# Altium schematic symbol library Diodes.SchLib: 13 symbols
Pins are listed as number, name and electrical type; pins without a type are passive.

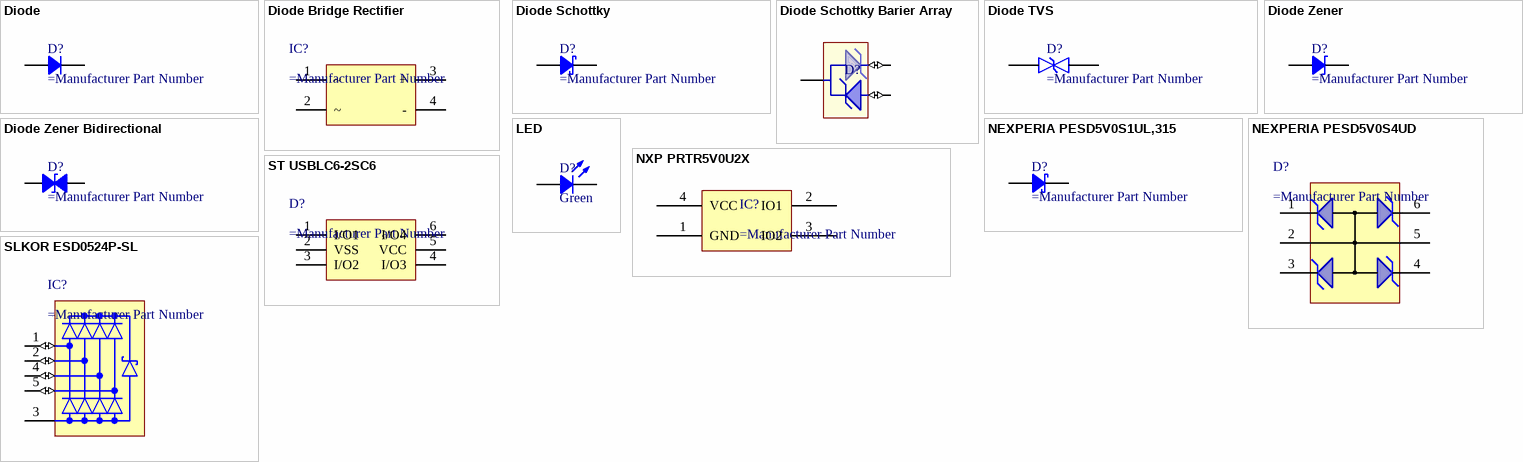
[diagram p0: symbols Diode to ST USBLC6-2SC6]

## Diode
designator D?
Rectifier Diode
footprint DFN1006-2L
footprint do214ac sma (Molded Diode, 2-Leads, Body 4.30x2.60mm, IPC Medium Density)
footprint do214ab smc (Molded Diode, 2-Leads, Body 6.85x5.90mm, IPC Medium Density)
footprint sod123f (SODFL, 2-Leads, Body 1.60x3.50mm, IPC Medium Density)
footprint sod323f (SODFL, 2-Leads, Body 1.25x2.50mm, IPC Medium Density)
footprint sod523f (SODFL, 2-Leads, Body 0.80x1.60mm, IPC Medium Density)
footprint sod-123 (SOD, 2-Leads, Body 1.55x3.70mm, IPC Medium Density)
footprint sod2513
pins: 1, 2

## Diode Bridge Rectifier
designator IC?
Bridge Rectifier
footprint VISHAY TO-269
pins: 1 ~, 2 ~, 3 +, 4 -

## Diode Schottky
designator D?
Schottky Diode
footprint DFN1006-2L
footprint DO214AB SMC (Molded Diode, 2-Leads, Body 6.85x5.90mm, IPC Medium Density)
footprint DO214AC SMA (Molded Diode, 2-Leads, Body 4.30x2.60mm, IPC Medium Density)
footprint SOD-123 (SOD, 2-Leads, Body 1.55x3.70mm, IPC Medium Density)
footprint SOD123F (SODFL, 2-Leads, Body 1.60x3.50mm, IPC Medium Density)
footprint SOD323F (SODFL, 2-Leads, Body 1.25x2.50mm, IPC Medium Density)
footprint SOD523F (SODFL, 2-Leads, Body 0.80x1.60mm, IPC Medium Density)
footprint SOD2513
footprint DO216AA
footprint SOD923
pins: 1, 2

## Diode Schottky Barier Array
designator D?
TVS Array; ComponentLink2Description: SMD
footprint DIODES SOT-23-3 (SOT23, 3-Leads, Body 2.90x2.40mm, Pitch 0.95mm, IPC Medium Density)
pins: 1 (io), 2 (power), 3 (io)

## Diode TVS
designator D?
TVS Diode
footprint DFN1006-2L
footprint DO214AB SMC (Molded Diode, 2-Leads, Body 6.85x5.90mm, IPC Medium Density)
footprint DO214AC SMA (Molded Diode, 2-Leads, Body 4.30x2.60mm, IPC Medium Density)
footprint SOD-123 (SOD, 2-Leads, Body 1.55x3.70mm, IPC Medium Density)
footprint SOD123F (SODFL, 2-Leads, Body 1.60x3.50mm, IPC Medium Density)
footprint SOD323F (SODFL, 2-Leads, Body 1.25x2.50mm, IPC Medium Density)
footprint SOD523F (SODFL, 2-Leads, Body 0.80x1.60mm, IPC Medium Density)
footprint SOD2513
footprint DO216AA
footprint SOD923
pins: 1, 2

## Diode Zener
designator D?
Zener Diode
footprint DFN1006-2L
footprint DO214AB SMC (Molded Diode, 2-Leads, Body 6.85x5.90mm, IPC Medium Density)
footprint DO214AC SMA (Molded Diode, 2-Leads, Body 4.30x2.60mm, IPC Medium Density)
footprint SOD123F (SODFL, 2-Leads, Body 1.60x3.50mm, IPC Medium Density)
footprint SOD323F (SODFL, 2-Leads, Body 1.25x2.50mm, IPC Medium Density)
footprint SOD523F (SODFL, 2-Leads, Body 0.80x1.60mm, IPC Medium Density)
footprint SOD2513
footprint SOD-123 (SOD, 2-Leads, Body 1.55x3.70mm, IPC Medium Density)
pins: 1, 2

## Diode Zener Bidirectional
designator D?
Bidirectional Zener Diode
footprint DO214AA SMB (Molded Diode, 2-Leads, Body 4.31x3.62mm, IPC Medium Density)
pins: 1, 2

## LED
designator D?, comment Green
Chip LED; Value: Green
footprint LED 0402/1005 (Chip Diode, 2-Leads, Body 1.00x0.50mm, IPC Medium Density)
footprint LED 0402/1005 BLUE (Chip Diode, 2-Leads, Body 1.00x0.50mm, IPC Medium Density)
footprint LED 0402/1005 GREEN (Chip Diode, 2-Leads, Body 1.00x0.50mm, IPC Medium Density)
footprint LED 0402/1005 RED (Chip Diode, 2-Leads, Body 1.00x0.50mm, IPC Medium Density)
footprint LED 0402/1005 YELLOW (Chip Diode, 2-Leads, Body 1.00x0.50mm, IPC Medium Density)
footprint LED 0603/1608 (Chip Diode, 2-Leads, Body 1.60x0.80mm, IPC Medium Density)
footprint LED 0603/1608 BLUE (Chip Diode, 2-Leads, Body 1.60x0.80mm, IPC Medium Density)
footprint LED 0603/1608 GREEN (Chip Diode, 2-Leads, Body 1.60x0.80mm, IPC Medium Density)
footprint LED 0603/1608 RED (Chip Diode, 2-Leads, Body 1.60x0.80mm, IPC Medium Density)
footprint LED 0603/1608 YELLOW (Chip Diode, 2-Leads, Body 1.60x0.80mm, IPC Medium Density)
footprint LED 0805/2012 (Chip Diode, 2-Leads, Body 2.00x1.25mm, IPC Medium Density)
footprint LED 0805/2012 BLUE (Chip Diode, 2-Leads, Body 2.00x1.25mm, IPC Medium Density)
footprint LED 0805/2012 GREEN (Chip Diode, 2-Leads, Body 2.00x1.25mm, IPC Medium Density)
footprint LED 0805/2012 RED (Chip Diode, 2-Leads, Body 2.00x1.25mm, IPC Medium Density)
footprint LED 0805/2012 YELLOW (Chip Diode, 2-Leads, Body 2.00x1.25mm, IPC Medium Density)
footprint LED 1206/3216 (Chip Diode, 2-Leads, Body 3.13x1.55mm, IPC Medium Density)
footprint LED 1206/3216 BLUE (Chip Diode, 2-Leads, Body 3.13x1.55mm, IPC Medium Density)
footprint LED 1206/3216 GREEN (Chip Diode, 2-Leads, Body 3.13x1.55mm, IPC Medium Density)
footprint LED 1206/3216 RED (Chip Diode, 2-Leads, Body 3.13x1.55mm, IPC Medium Density)
footprint LED 1206/3216 YELLOW (Chip Diode, 2-Leads, Body 3.13x1.55mm, IPC Medium Density)
footprint LED 2.5Px0.8HLx5RLx8.7H (Radial, Round with Domed Top,  2 Position, 2.5mm pin space, 0.8mm hole, Body 5mm Radius, Height 8.7mm)
pins: 1, 2

## NEXPERIA PESD5V0S1UL,315
designator D?
20V Clamp 15A (8/20µs) Ipp Tvs Diode
footprint NEXPERIA SOD-882
pins: 1, 2

## NEXPERIA PESD5V0S4UD
designator D?
TVS Diode (Uni-directional); Manufacturer_Name: Nexperia; Manufacturer_Part_Number: PESD5V0S4UD,115; Datasheet Link: https://assets.nexperia.com/documents/data-sheet/PESDXS4UD_SER.pdf; Height: 1.1mm; Mouser Part Number: 771-PESD5V0S4UD115; Mouser Price/Stock: https://www.mouser.co.uk/ProductDetail/Nexperia/PESD5V0S4UD115?qs=LOCUfHb8d9v8Uykx45uuew%3D%3D; Arrow Part Number: PESD5V0S4UD,115; Arrow Price/Stock: https://www.arrow.com/en/products/pesd5v0s4ud115/nexperia?utm_currency=USD&region=nac
footprint NEXPERIA TSOP-6 3.45x3.3mm
pins: 1 K1, 2 CA, 3 K2, 4 K3, 5 CA, 6 K4

## NXP PRTR5V0U2X
designator IC?
Ultra low capacitance double rail-to-rail ESD protection diode
pins: 1 GND, 2 IO1, 3 IO2, 4 VCC

## SLKOR ESD0524P-SL
designator IC?
4-Line ESD Protection Diode Array
footprint SLKOR DFN2510-10L
pins: 1 D1+ (io), 2 D1- (io), 3 GND (power), 4 D2+ (io), 5 D2- (io)

## ST USBLC6-2SC6
designator D?
Very low capacitance ESD protection
footprint ST SOT-23-6L (TSOT23, 6-Leads, Body 2.90x2.80mm, Pitch 0.95mm, IPC High Density)
pins: 1 I/O1, 2 VSS, 3 I/O2, 4 I/O3, 5 VCC, 6 I/O4